# EAGLE library part 428527520908 (library EAGLE-TACT_SWITCHES-rev17c)
WS-RCT-10x10 mm washable THT Rotary Switch,6 pins,8 positions <http://katalog.we-online.de/media/images/v2/Family_WS-ROTV_THT_Rotary_Switch_4285275209xx.jpg> Details see: http://katalog.we-online.de/en/em/ROTV_10X10_WASHABLE_THT_CROSS_TYPE 2015 (C) Würth Elektronik
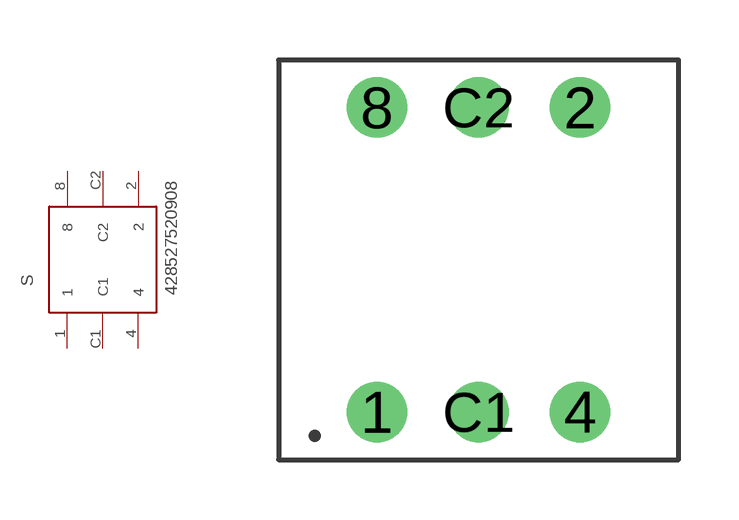
[diagram p125: symbol with the pads of 428527520908; footprint 428527520908]

Designator prefix S

## 428527520908  [428527520908]
1  1  pas
2  2  pas
4  4  pas
8  8  pas
C1  C1  pas
C2  C2  pas

## Footprint 428527520908 (pad centres in mm)
WS-RCT-10x10 mm washable THT Rotary Switch,6 pins,8 positions
drill 1: 1 -2.54,-3.81; 2 2.54,3.81; 4 2.54,-3.81; 8 -2.54,3.81; C1 0,-3.81; C2 0,3.81